# Altium schematic symbol library MOSFET-PCH.Schlib: 1 symbol
Pins are listed as number, name and electrical type; pins without a type are passive.

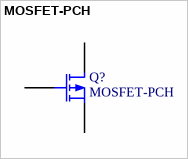
[diagram p0: symbol MOSFET-PCH]

## MOSFET-PCH
designator Q?
P-Channel MOSFET
pins: 1 G, 2 S, 3 D